# EAGLE library part DRV8835 (library DRV 8835)
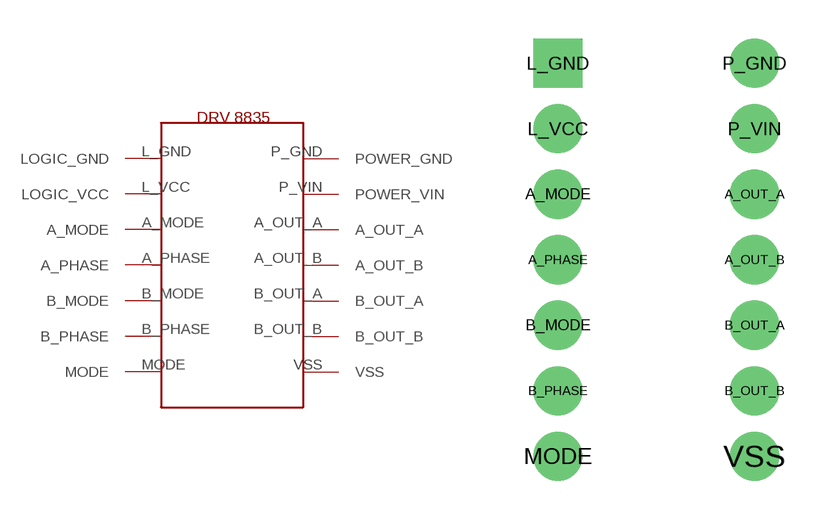
[diagram p0: symbol with the pads of DRV8835; footprint DRV8835]

Designator prefix -

## DRV8835  [DRV8835]
A_MODE  A_MODE
A_OUT_A  A_OUT_A
A_OUT_B  A_OUT_B
A_PHASE  A_PHASE
B_MODE  B_MODE
B_OUT_A  B_OUT_A
B_OUT_B  B_OUT_B
B_PHASE  B_PHASE
L_GND  LOGIC_GND  pwr
L_VCC  LOGIC_VCC  pwr
MODE  MODE
P_GND  POWER_GND  pwr
P_VIN  POWER_VIN  pwr
VSS  VSS

## Footprint DRV8835 (pad centres in mm)
drill 1.27: A_MODE -3.81,3.81; A_OUT_A 3.81,3.81; A_OUT_B 3.81,1.27; A_PHASE -3.81,1.27; B_MODE -3.81,-1.27; B_OUT_A 3.81,-1.27; B_OUT_B 3.81,-3.81; B_PHASE -3.81,-3.81; L_VCC -3.81,6.35; MODE -3.81,-6.35; P_GND 3.81,8.89; P_VIN 3.81,6.35; VSS 3.81,-6.35
drill 1.27 square: L_GND -3.81,8.89